# Altium footprint library NFET.PcbLib: 6 footprints
Each footprint in its own frame and in the unit in brackets; x right, y up, seen from the top. Pads: shape width x height; smd on the part's side, far side on the other; paste and mask are expansions set on the pad; w line width, h text height; cw(c..) or ccw(c..) is an arc to the next point about the centre after c.
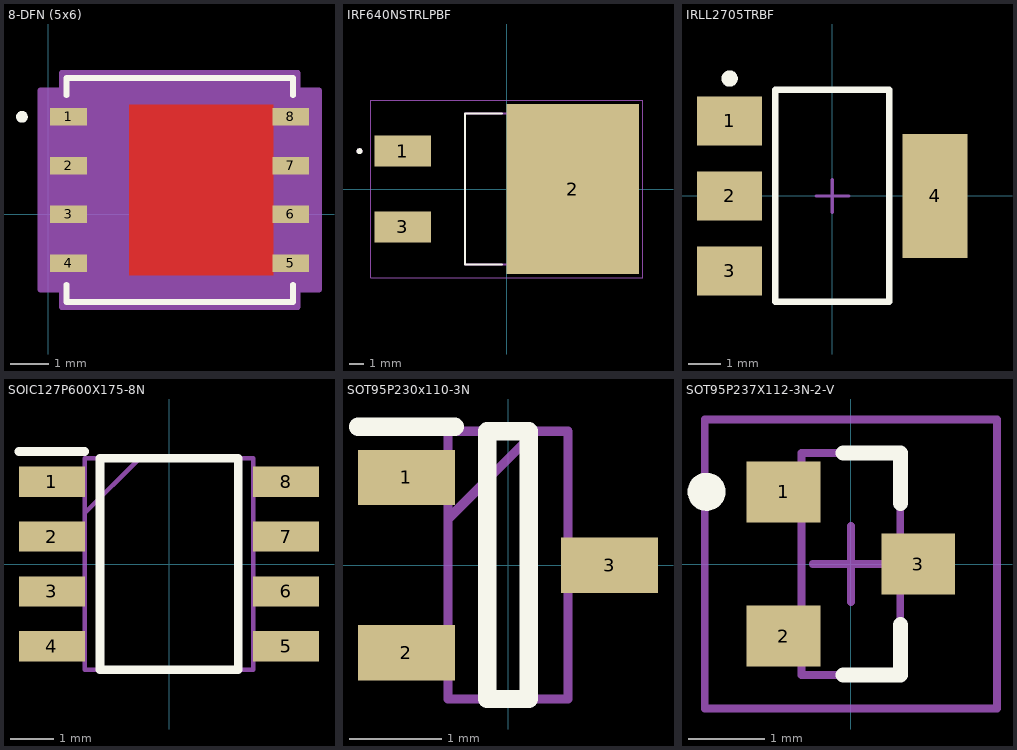
[diagram p0: the footprints below, top view; thin cyan lines are the x and y axes]

## 8-DFN (5x6) [mm]
pads (8):
  rect 0.96x0.458 smd paste+0 mask+0: 1(0.536,2.54) 2(0.536,1.27) 3(0.536,0) 4(0.536,-1.27) 5(6.322,-1.27) 6(6.322,0) 7(6.322,1.27) 8(6.322,2.54)
Top Layer:
  region: 5.867,-1.587 5.867,2.857 2.108,2.857 2.108,-1.587
Top Overlay:
  circle w0.152: c-0.681,2.54 r0.076
  lines w0.152: 0.483,-1.832 0.483,-2.286 6.375,-2.286 6.375,-1.832 ; 0.483,3.102 0.483,3.556 6.375,3.556 6.375,3.102
  text ".Designator" at -0.064,0 h1.27
Top Paste:
  region: 5.867,-1.587 5.867,2.857 2.108,2.857 2.108,-1.587
Top Solder:
  region: 5.867,-1.587 5.867,2.857 2.108,2.857 2.108,-1.587
Mechanical 13:
  circle w0.025: c1.016,2.54 r0.076
  lines w0.025: 3.124,3.429 ccw(c3.429,3.429) 3.734,3.429 ; 0.61,-2.159 6.248,-2.159 6.248,3.429 0.61,3.429 0.61,-2.159
  text ".Designator" at -0.064,0 h1.27
Mechanical 15:
  region: 0.356,-1.956 -0.198,-1.956 -0.198,3.226 0.356,3.226 0.356,3.683 6.502,3.683 6.502,3.226 7.056,3.226 7.056,-1.956 6.502,-1.956 6.502,-2.413 0.356,-2.413
  lines w0.152: -0.198,-1.956 -0.198,3.226 0.356,3.226 0.356,3.683 6.502,3.683 6.502,3.226 7.056,3.226 7.056,-1.956 6.502,-1.956 6.502,-2.413 0.356,-2.413 0.356,-1.956 -0.198,-1.956
3D body "DFN5X6_8L_EP1_P_AOS.step": height 0.99, standoff 0, extent 0.356,-2.159 6.502,3.429

## IRF640NSTRLPBF [mm]
pads (3):
  rect 3.81x2.08 smd: 1(-6.985,2.54) 3(-6.985,-2.54)
  rect 8.89x11.43 smd paste-7: 2(4.445,0)
Top Overlay:
  circle w0.2: c-9.89,2.54 r0.1
  lines w0.127: -0.32,-5.08 -2.795,-5.08 -2.795,5.08 -0.32,5.08
Top Paste:
  region: 3.985,-1.605 2.675,-1.605 2.675,-0.305 3.985,-0.305
  region: 1.755,-1.605 0.445,-1.605 0.445,-0.305 1.755,-0.305
  region: 6.215,-1.605 4.905,-1.605 4.905,-0.305 6.215,-0.305
  region: 8.445,-1.605 7.135,-1.605 7.135,-0.305 8.445,-0.305
  region: 3.985,0.305 2.675,0.305 2.675,1.605 3.985,1.605
  region: 1.755,0.305 0.445,0.305 0.445,1.605 1.755,1.605
  region: 6.215,0.305 4.905,0.305 4.905,1.605 6.215,1.605
  region: 8.445,0.305 7.135,0.305 7.135,1.605 8.445,1.605
  region: 3.985,2.215 2.675,2.215 2.675,3.515 3.985,3.515
  region: 1.755,2.215 0.445,2.215 0.445,3.515 1.755,3.515
  region: 6.215,2.215 4.905,2.215 4.905,3.515 6.215,3.515
  region: 8.445,2.215 7.135,2.215 7.135,3.515 8.445,3.515
  region: 3.985,-3.515 2.675,-3.515 2.675,-2.215 3.985,-2.215
  region: 1.755,-3.515 0.445,-3.515 0.445,-2.215 1.755,-2.215
  region: 6.215,-3.515 4.905,-3.515 4.905,-2.215 6.215,-2.215
  region: 8.445,-3.515 7.135,-3.515 7.135,-2.215 8.445,-2.215
  region: 3.985,4.125 2.675,4.125 2.675,5.425 3.985,5.425
  region: 1.755,4.125 0.445,4.125 0.445,5.425 1.755,5.425
  region: 6.215,4.125 4.905,4.125 4.905,5.425 6.215,5.425
  region: 8.445,4.125 7.135,4.125 7.135,5.425 8.445,5.425
  region: 3.985,-5.425 2.675,-5.425 2.675,-4.125 3.985,-4.125
  region: 1.755,-5.425 0.445,-5.425 0.445,-4.125 1.755,-4.125
  region: 6.215,-5.425 4.905,-5.425 4.905,-4.125 6.215,-4.125
  region: 8.445,-5.425 7.135,-5.425 7.135,-4.125 8.445,-4.125
Mechanical 13:
  circle w0.2: c-9.89,2.54 r0.1
  lines w0.127: -2.795,-5.08 6.285,-5.08 6.285,5.08 -2.795,5.08 -2.795,-5.08
Mechanical 15:
  lines w0.05: -9.14,-5.965 -9.14,5.965 9.14,5.965 9.14,-5.965 -9.14,-5.965
3D body "IRF640NSTRLPBF.STEP": height 4.83, standoff -0.13, extent -8.001,-4.953 7.239,5.207

## IRLL2705TRBF [mm]
pads (4):
  rect 2x1.5 smd paste+0 mask+0: 1(-3.15,2.3) 2(-3.15,0) 3(-3.15,-2.3)
  rect 2x3.8 smd paste+0 mask+0: 4(3.15,0)
Top Overlay:
  circle w0.25: c-3.15,3.6 r0.125
  lines w0.2: -1.75,-3.25 -1.75,3.25 1.75,3.25 1.75,-3.25 -1.75,-3.25
Mechanical 13:
  lines w0.1: -1.75,-3.25 -1.75,3.25 1.75,3.25 1.75,-3.25 -1.75,-3.25
Mechanical 15:
  lines w0.1: -0.5,0 0.5,0 ; 0,-0.5 0,0.5
3D body "SOT223-4-X1.stp": height 1.81, standoff 0, extent -3.5,-3.25 3.5,3.25

## SOIC127P600X175-8N [mm]
pads (8):
  rect 1.525x0.7 smd: 1(-2.712,1.905) 2(-2.712,0.635) 3(-2.712,-0.635) 4(-2.712,-1.905) 5(2.712,-1.905) 6(2.712,-0.635) 7(2.712,0.635) 8(2.712,1.905)
Top Overlay:
  lines w0.2: -3.475,2.605 -1.95,2.605 ; -1.6,-2.45 -1.6,2.45 1.6,2.45 1.6,-2.45 -1.6,-2.45
Mechanical 15:
  lines w0.1: -1.95,1.18 -0.68,2.45 ; -1.95,-2.45 -1.95,2.45 1.95,2.45 1.95,-2.45 -1.95,-2.45
3D body "IRF7416TRPBF.stp": height 1.75, standoff 0, extent -3,-2.45 3,2.45

## SOT95P230x110-3N [mm]
pads (3):
  rect 1.05x0.6 smd: 1(-1.1,0.95) 2(-1.1,-0.95) 3(1.1,0)
Top Overlay:
  lines w0.2: -1.625,1.5 -0.575,1.5 ; -0.225,-1.45 -0.225,1.45 0.225,1.45 0.225,-1.45 -0.225,-1.45
Mechanical 15:
  lines w0.1: -0.65,0.5 0.3,1.45 ; -0.65,-1.45 -0.65,1.45 0.65,1.45 0.65,-1.45 -0.65,-1.45
3D body "PMV40UN2R.stp": height 0.89, standoff -0.06, extent -1.143,-1.45 1.258,1.45

## SOT95P237X112-3N-2-V [mm]
pads (3):
  rect 0.972x0.802 smd paste+0 mask+0: 1(-0.885,0.95) 2(-0.885,-0.95) 3(0.885,0)
Top Overlay:
  circle w0.25: c-1.9,0.95 r0.125
  lines w0.2: -0.1,-1.46 0.65,-1.46 0.65,-0.8 ; -0.1,1.46 0.65,1.46 0.65,0.8
Mechanical 13:
  lines w0.1: -0.65,-1.46 0.65,-1.46 0.65,1.46 -0.65,1.46 -0.65,-1.46
Mechanical 15:
  lines w0.1: -0.5,0 0.5,0 ; 0,-0.5 0,0.5 ; -1.921,-1.901 -1.921,1.901 1.921,1.901 1.921,-1.901 -1.921,-1.901
3D body "SOT23-3-X1.stp": height 1.12, standoff 0, extent -1.2,-1.46 1.2,1.46